# Altium footprint library PCB - CAPACITOR - ALUMINIUM - CAP TH ALUM ELEC D20.00mm S10.00mm H27.00mm.PCBLIB: 1 footprints
Each footprint in its own frame and in the unit in brackets; x right, y up, seen from the top. Pads: shape width x height; smd on the part's side, far side on the other; paste and mask are expansions set on the pad; w line width, h text height; cw(c..) or ccw(c..) is an arc to the next point about the centre after c.
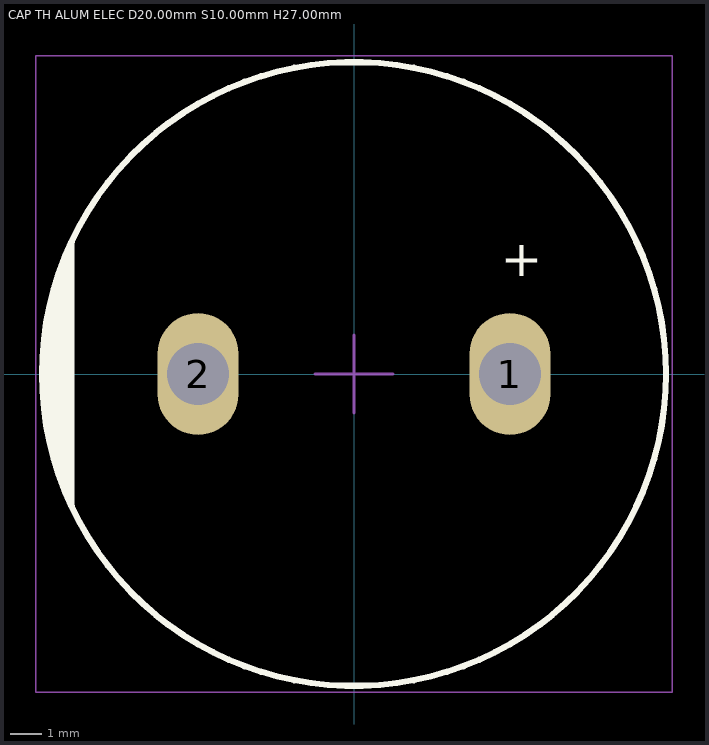
[diagram p0: the footprint, top view; thin cyan lines are the x and y axes]

## CAP TH ALUM ELEC D20.00mm S10.00mm H27.00mm [mm] "20mm Diameter 10mm Lead Spacing Aluminum Electrolytic Capacitors Radial, Can , Snap-In"
height 27
pads (2):
  oval 2.6x3.9 hole 2: 1(5,0) 2(-5,0)
Top Overlay:
  circle w0.2: c0,0 r10
  region: -9.063,-4.226 -9.217,-3.896 -9.476,-3.217 -9.684,-2.52 -9.842,-1.809 -9.947,-1.089 -10,-0.364 -10,0.364 -9.947,1.089 -9.842,1.809 -9.684,2.52 -9.476,3.217 -9.217,3.896 -9.063,4.226
  lines w0.2: -9.063,-4.226 cw(c0,0) -9.063,4.226 -9.063,-4.226
  text "+" at 4.7,2.75 h2
Mechanical 13:
  circle w0.1: c0,0 r10
  lines w0.1: -9.063,-4.226 -9.063,4.226
Mechanical 15:
  lines w0.05: -10.2,-10.2 10.2,-10.2 10.2,10.2 -10.2,10.2 -10.2,-10.2
  lines w0.1: -1.25,0 0,0 ; 0,-1.25 0,0 ; 0,1.25 0,0 ; 1.25,0 0,0
3D body "Cap TH D20.00mm H27.00mm L10.00mm.step": height 27, standoff -2.5, extent -10.01,-10 10,10